# Altium integrated library Linear Technology PMIC-Switching Reg LT1074-LT8705.IntLib: 2252 symbols (part 60 of 124)
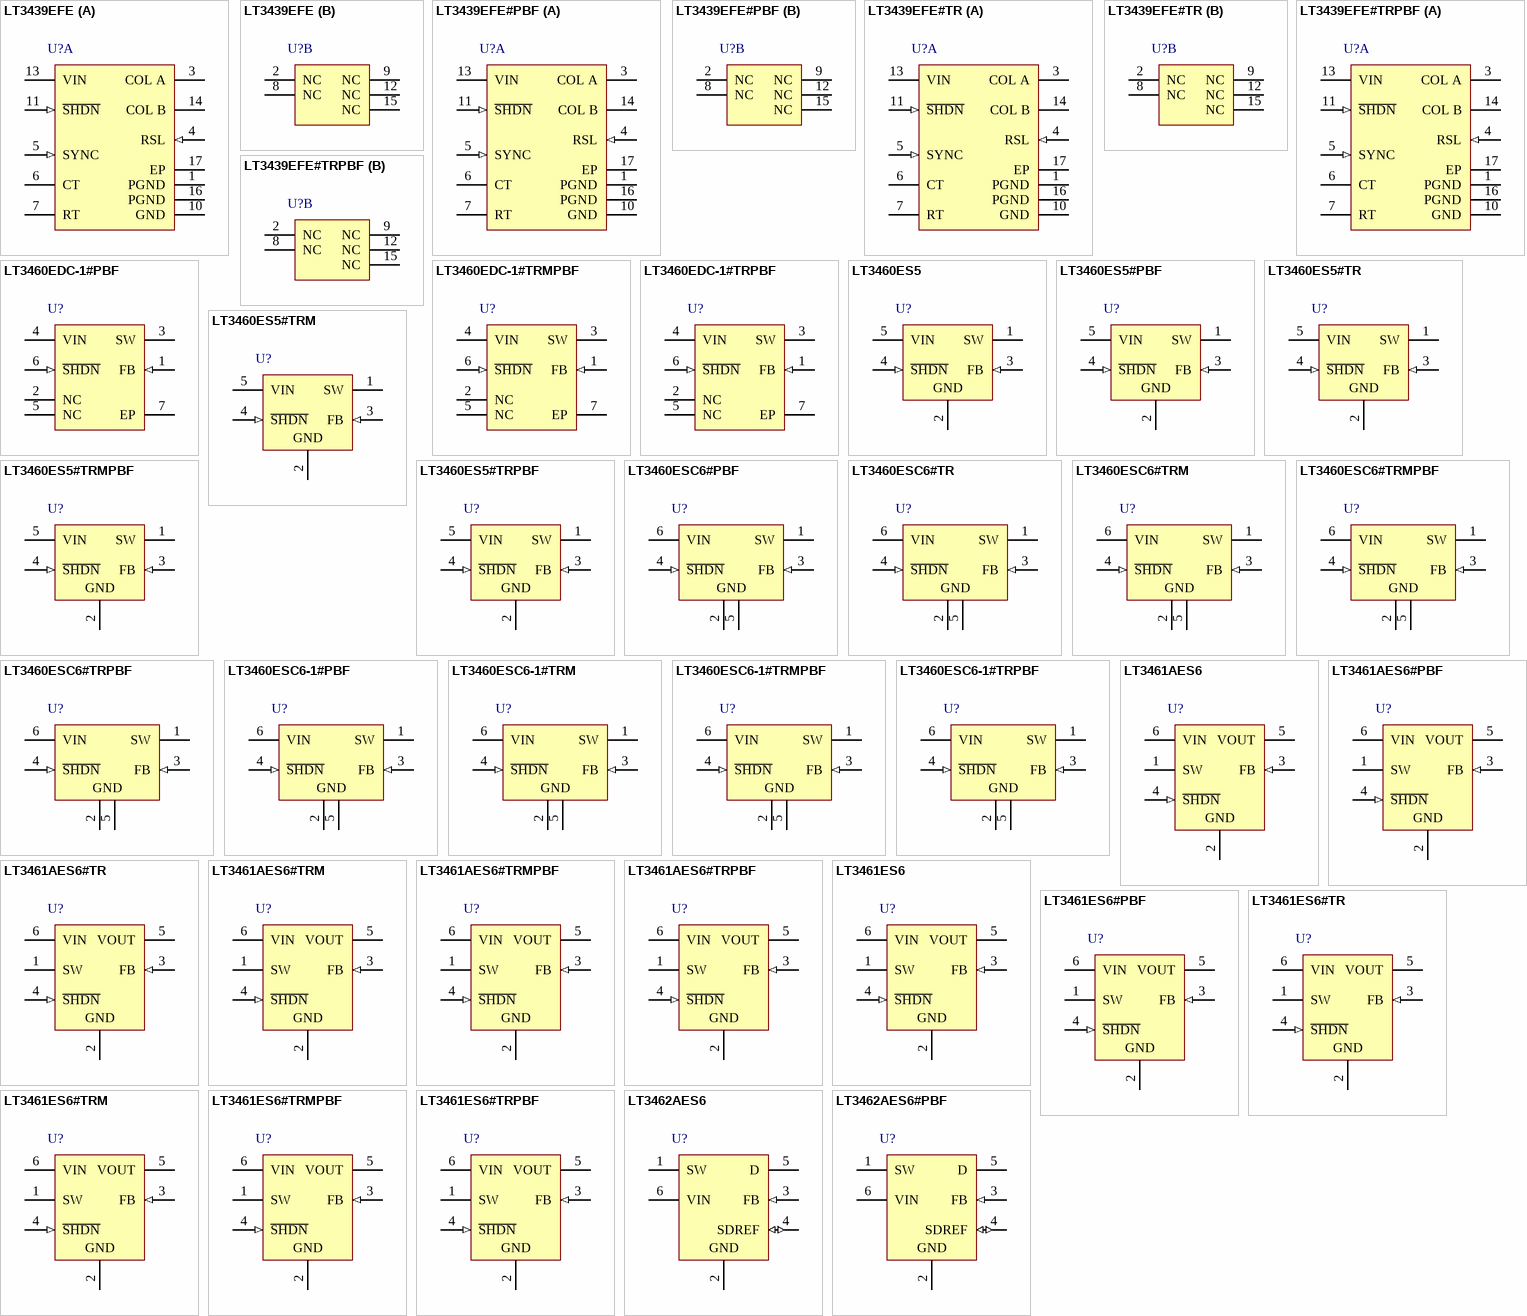
[diagram p130: symbols LT3439EFE to LT3462AES6#PBF]

## LT3460ESC6#PBF
designator U?
1.3 MHz Step-Up DC/DC Converter, 6-pin SOT23 (SC6-6), -40 to 85 degC, Pb-Free; Manufacturer: Linear Technology; PartNumber: LT3460ESC6#PBF; Number of Outputs: 1; PackageReference: SC6-6; PackageDescription: 6-Pin Plastic SC70, Body 2 x 1.25 mm, Pitch 0.65 mm; RoHS: TRUE
footprint LT-SC6-6-SC70_N (SOT23, 6-Leads, Body 2.2x1.35mm, Pitch 0.65mm, IPC Medium Density)
footprint LT-SC6-6-SC70_L (SOT23, 6-Leads, Body 2.2x1.35mm, Pitch 0.65mm, IPC High Density)
footprint LT-SC6-6-SC70_M (SOT23, 6-Leads, Body 2.2x1.35mm, Pitch 0.65mm, IPC Low Density)
pins: 1 SW (power) "Switch Pin. Connect inductor/diode here. Minimize trace at this pin to reduce EMI.", 2 GND (power) "Ground Pin. Tie directly to local ground plane.", 3 FB (in) "Feedback Pin. Reference voltage is 1.255V. Connect resistor divider tap here. Minimize trace area at FB. Set VOUT according to VOUT = 1.255V (1 + R1/R2).", 4 ~{SHDN} (in) "Shutdown Pin. Tie to 1.5V or higher to enable device; 0.4V or less to disable device. Also functions as soft-start. Use RC filter (47k, 47nF typ) as shown in Figure 1.", 5 GND (power) "Ground Pin. Tie directly to local ground plane.", 6 VIN (power) "Input Supply Pin. Must be locally bypassed."

## LT3460ESC6#TR
designator U?
1.3 MHz Step-Up DC/DC Converter, 6-pin SOT23 (SC6-6), -40 to 85 degC, Tape and Reel; Manufacturer: Linear Technology; PartNumber: LT3460ESC6#TR; Number of Outputs: 1; PackageReference: SC6-6; PackageDescription: 6-Pin Plastic SC70, Body 2 x 1.25 mm, Pitch 0.65 mm; Supplier 1: Digi-Key; Supplier Part Number 1: LT3460ESC6#TR-ND; RoHS: FALSE
footprint LT-SC6-6-SC70_N (SOT23, 6-Leads, Body 2.2x1.35mm, Pitch 0.65mm, IPC Medium Density)
footprint LT-SC6-6-SC70_L (SOT23, 6-Leads, Body 2.2x1.35mm, Pitch 0.65mm, IPC High Density)
footprint LT-SC6-6-SC70_M (SOT23, 6-Leads, Body 2.2x1.35mm, Pitch 0.65mm, IPC Low Density)
pins: 1 SW (power) "Switch Pin. Connect inductor/diode here. Minimize trace at this pin to reduce EMI.", 2 GND (power) "Ground Pin. Tie directly to local ground plane.", 3 FB (in) "Feedback Pin. Reference voltage is 1.255V. Connect resistor divider tap here. Minimize trace area at FB. Set VOUT according to VOUT = 1.255V (1 + R1/R2).", 4 ~{SHDN} (in) "Shutdown Pin. Tie to 1.5V or higher to enable device; 0.4V or less to disable device. Also functions as soft-start. Use RC filter (47k, 47nF typ) as shown in Figure 1.", 5 GND (power) "Ground Pin. Tie directly to local ground plane.", 6 VIN (power) "Input Supply Pin. Must be locally bypassed."

## LT3460ESC6#TRM
designator U?
1.3 MHz Step-Up DC/DC Converter, 6-pin SOT23 (SC6-6), -40 to 85 degC, Mini Tape and Reel; Manufacturer: Linear Technology; PartNumber: LT3460ESC6#TRM; Number of Outputs: 1; PackageReference: SC6-6; PackageDescription: 6-Pin Plastic SC70, Body 2 x 1.25 mm, Pitch 0.65 mm; Supplier 1: Digi-Key; Supplier Part Number 1: LT3460ESC6#TRMTR-ND; RoHS: FALSE
footprint LT-SC6-6-SC70_N (SOT23, 6-Leads, Body 2.2x1.35mm, Pitch 0.65mm, IPC Medium Density)
footprint LT-SC6-6-SC70_L (SOT23, 6-Leads, Body 2.2x1.35mm, Pitch 0.65mm, IPC High Density)
footprint LT-SC6-6-SC70_M (SOT23, 6-Leads, Body 2.2x1.35mm, Pitch 0.65mm, IPC Low Density)
pins: 1 SW (power) "Switch Pin. Connect inductor/diode here. Minimize trace at this pin to reduce EMI.", 2 GND (power) "Ground Pin. Tie directly to local ground plane.", 3 FB (in) "Feedback Pin. Reference voltage is 1.255V. Connect resistor divider tap here. Minimize trace area at FB. Set VOUT according to VOUT = 1.255V (1 + R1/R2).", 4 ~{SHDN} (in) "Shutdown Pin. Tie to 1.5V or higher to enable device; 0.4V or less to disable device. Also functions as soft-start. Use RC filter (47k, 47nF typ) as shown in Figure 1.", 5 GND (power) "Ground Pin. Tie directly to local ground plane.", 6 VIN (power) "Input Supply Pin. Must be locally bypassed."

## LT3460ESC6#TRMPBF
designator U?
1.3 MHz Step-Up DC/DC Converter, 6-pin SOT23 (SC6-6), -40 to 85 degC, Pb-Free, Mini Tape and Reel; Manufacturer: Linear Technology; PartNumber: LT3460ESC6#TRMPBF; Number of Outputs: 1; PackageReference: SC6-6; PackageDescription: 6-Pin Plastic SC70, Body 2 x 1.25 mm, Pitch 0.65 mm; Supplier 1: Digi-Key; Supplier Part Number 1: LT3460ESC6#TRMPBF-ND; RoHS: TRUE
footprint LT-SC6-6-SC70_N (SOT23, 6-Leads, Body 2.2x1.35mm, Pitch 0.65mm, IPC Medium Density)
footprint LT-SC6-6-SC70_L (SOT23, 6-Leads, Body 2.2x1.35mm, Pitch 0.65mm, IPC High Density)
footprint LT-SC6-6-SC70_M (SOT23, 6-Leads, Body 2.2x1.35mm, Pitch 0.65mm, IPC Low Density)
pins: 1 SW (power) "Switch Pin. Connect inductor/diode here. Minimize trace at this pin to reduce EMI.", 2 GND (power) "Ground Pin. Tie directly to local ground plane.", 3 FB (in) "Feedback Pin. Reference voltage is 1.255V. Connect resistor divider tap here. Minimize trace area at FB. Set VOUT according to VOUT = 1.255V (1 + R1/R2).", 4 ~{SHDN} (in) "Shutdown Pin. Tie to 1.5V or higher to enable device; 0.4V or less to disable device. Also functions as soft-start. Use RC filter (47k, 47nF typ) as shown in Figure 1.", 5 GND (power) "Ground Pin. Tie directly to local ground plane.", 6 VIN (power) "Input Supply Pin. Must be locally bypassed."

## LT3460ESC6#TRPBF
designator U?
1.3 MHz Step-Up DC/DC Converter, 6-pin SOT23 (SC6-6), -40 to 85 degC, Pb-Free, Tape and Reel; Manufacturer: Linear Technology; PartNumber: LT3460ESC6#TRPBF; Number of Outputs: 1; PackageReference: SC6-6; PackageDescription: 6-Pin Plastic SC70, Body 2 x 1.25 mm, Pitch 0.65 mm; Supplier 1: Digi-Key; Supplier Part Number 1: LT3460ESC6#TRPBF-ND; RoHS: TRUE
footprint LT-SC6-6-SC70_N (SOT23, 6-Leads, Body 2.2x1.35mm, Pitch 0.65mm, IPC Medium Density)
footprint LT-SC6-6-SC70_L (SOT23, 6-Leads, Body 2.2x1.35mm, Pitch 0.65mm, IPC High Density)
footprint LT-SC6-6-SC70_M (SOT23, 6-Leads, Body 2.2x1.35mm, Pitch 0.65mm, IPC Low Density)
pins: 1 SW (power) "Switch Pin. Connect inductor/diode here. Minimize trace at this pin to reduce EMI.", 2 GND (power) "Ground Pin. Tie directly to local ground plane.", 3 FB (in) "Feedback Pin. Reference voltage is 1.255V. Connect resistor divider tap here. Minimize trace area at FB. Set VOUT according to VOUT = 1.255V (1 + R1/R2).", 4 ~{SHDN} (in) "Shutdown Pin. Tie to 1.5V or higher to enable device; 0.4V or less to disable device. Also functions as soft-start. Use RC filter (47k, 47nF typ) as shown in Figure 1.", 5 GND (power) "Ground Pin. Tie directly to local ground plane.", 6 VIN (power) "Input Supply Pin. Must be locally bypassed."

## LT3460ESC6-1#PBF
designator U?
650 kHz Step-Up DC/DC Converter, 6-pin SOT23 (SC6-6), -40 to 85 degC, Pb-Free; Manufacturer: Linear Technology; PartNumber: LT3460ESC6-1#PBF; Number of Outputs: 1; PackageReference: SC6-6; PackageDescription: 6-Pin Plastic SC70, Body 2 x 1.25 mm, Pitch 0.65 mm; RoHS: TRUE
footprint LT-SC6-6-SC70_N (SOT23, 6-Leads, Body 2.2x1.35mm, Pitch 0.65mm, IPC Medium Density)
footprint LT-SC6-6-SC70_L (SOT23, 6-Leads, Body 2.2x1.35mm, Pitch 0.65mm, IPC High Density)
footprint LT-SC6-6-SC70_M (SOT23, 6-Leads, Body 2.2x1.35mm, Pitch 0.65mm, IPC Low Density)
pins: 1 SW (power) "Switch Pin. Connect inductor/diode here. Minimize trace at this pin to reduce EMI.", 2 GND (power) "Ground Pin. Tie directly to local ground plane.", 3 FB (in) "Feedback Pin. Reference voltage is 1.255V. Connect resistor divider tap here. Minimize trace area at FB. Set VOUT according to VOUT = 1.255V (1 + R1/R2).", 4 ~{SHDN} (in) "Shutdown Pin. Tie to 1.5V or higher to enable device; 0.4V or less to disable device. Also functions as soft-start. Use RC filter (47k, 47nF typ) as shown in Figure 1.", 5 GND (power) "Ground Pin. Tie directly to local ground plane.", 6 VIN (power) "Input Supply Pin. Must be locally bypassed."

## LT3460ESC6-1#TRM
designator U?
650 kHz Step-Up DC/DC Converter, 6-pin SOT23 (SC6-6), -40 to 85 degC, Mini Tape and Reel; Manufacturer: Linear Technology; PartNumber: LT3460ESC6-1#TRM; Number of Outputs: 1; PackageReference: SC6-6; PackageDescription: 6-Pin Plastic SC70, Body 2 x 1.25 mm, Pitch 0.65 mm; RoHS: TRUE
footprint LT-SC6-6-SC70_N (SOT23, 6-Leads, Body 2.2x1.35mm, Pitch 0.65mm, IPC Medium Density)
footprint LT-SC6-6-SC70_L (SOT23, 6-Leads, Body 2.2x1.35mm, Pitch 0.65mm, IPC High Density)
footprint LT-SC6-6-SC70_M (SOT23, 6-Leads, Body 2.2x1.35mm, Pitch 0.65mm, IPC Low Density)
pins: 1 SW (power) "Switch Pin. Connect inductor/diode here. Minimize trace at this pin to reduce EMI.", 2 GND (power) "Ground Pin. Tie directly to local ground plane.", 3 FB (in) "Feedback Pin. Reference voltage is 1.255V. Connect resistor divider tap here. Minimize trace area at FB. Set VOUT according to VOUT = 1.255V (1 + R1/R2).", 4 ~{SHDN} (in) "Shutdown Pin. Tie to 1.5V or higher to enable device; 0.4V or less to disable device. Also functions as soft-start. Use RC filter (47k, 47nF typ) as shown in Figure 1.", 5 GND (power) "Ground Pin. Tie directly to local ground plane.", 6 VIN (power) "Input Supply Pin. Must be locally bypassed."

## LT3460ESC6-1#TRMPBF
designator U?
650 kHz Step-Up DC/DC Converter, 6-pin SOT23 (SC6-6), -40 to 85 degC, Pb-Free, Mini Tape and Reel; Manufacturer: Linear Technology; PartNumber: LT3460ESC6-1#TRMPBF; Number of Outputs: 1; PackageReference: SC6-6; PackageDescription: 6-Pin Plastic SC70, Body 2 x 1.25 mm, Pitch 0.65 mm; Supplier 1: Digi-Key; Supplier Part Number 1: LT3460ESC6-1#TRMPBF-ND; RoHS: TRUE
footprint LT-SC6-6-SC70_N (SOT23, 6-Leads, Body 2.2x1.35mm, Pitch 0.65mm, IPC Medium Density)
footprint LT-SC6-6-SC70_L (SOT23, 6-Leads, Body 2.2x1.35mm, Pitch 0.65mm, IPC High Density)
footprint LT-SC6-6-SC70_M (SOT23, 6-Leads, Body 2.2x1.35mm, Pitch 0.65mm, IPC Low Density)
pins: 1 SW (power) "Switch Pin. Connect inductor/diode here. Minimize trace at this pin to reduce EMI.", 2 GND (power) "Ground Pin. Tie directly to local ground plane.", 3 FB (in) "Feedback Pin. Reference voltage is 1.255V. Connect resistor divider tap here. Minimize trace area at FB. Set VOUT according to VOUT = 1.255V (1 + R1/R2).", 4 ~{SHDN} (in) "Shutdown Pin. Tie to 1.5V or higher to enable device; 0.4V or less to disable device. Also functions as soft-start. Use RC filter (47k, 47nF typ) as shown in Figure 1.", 5 GND (power) "Ground Pin. Tie directly to local ground plane.", 6 VIN (power) "Input Supply Pin. Must be locally bypassed."

## LT3460ESC6-1#TRPBF
designator U?
650 kHz Step-Up DC/DC Converter, 6-pin SOT23 (SC6-6), -40 to 85 degC, Pb-Free, Tape and Reel; Manufacturer: Linear Technology; PartNumber: LT3460ESC6-1#TRPBF; Number of Outputs: 1; PackageReference: SC6-6; PackageDescription: 6-Pin Plastic SC70, Body 2 x 1.25 mm, Pitch 0.65 mm; Supplier 1: Digi-Key; Supplier Part Number 1: LT3460ESC6-1#TRPBF-ND; RoHS: TRUE
footprint LT-SC6-6-SC70_N (SOT23, 6-Leads, Body 2.2x1.35mm, Pitch 0.65mm, IPC Medium Density)
footprint LT-SC6-6-SC70_L (SOT23, 6-Leads, Body 2.2x1.35mm, Pitch 0.65mm, IPC High Density)
footprint LT-SC6-6-SC70_M (SOT23, 6-Leads, Body 2.2x1.35mm, Pitch 0.65mm, IPC Low Density)
pins: 1 SW (power) "Switch Pin. Connect inductor/diode here. Minimize trace at this pin to reduce EMI.", 2 GND (power) "Ground Pin. Tie directly to local ground plane.", 3 FB (in) "Feedback Pin. Reference voltage is 1.255V. Connect resistor divider tap here. Minimize trace area at FB. Set VOUT according to VOUT = 1.255V (1 + R1/R2).", 4 ~{SHDN} (in) "Shutdown Pin. Tie to 1.5V or higher to enable device; 0.4V or less to disable device. Also functions as soft-start. Use RC filter (47k, 47nF typ) as shown in Figure 1.", 5 GND (power) "Ground Pin. Tie directly to local ground plane.", 6 VIN (power) "Input Supply Pin. Must be locally bypassed."

## LT3461AES6
designator U?
3 MHz Step-Up DC/DC Converter with Integrated Schottky, 6-pin SOT23 (S6-6), -40 to 85 degC; Manufacturer: Linear Technology; PartNumber: LT3461AES6; Number of Outputs: 1; PackageReference: S6-6; PackageDescription: 6-Pin Plastic TSOT-23, Body 2.9 x 1.63 mm, Pitch 0.95 mm; Supplier 1: Newark; Supplier Part Number 1: 24W8904; RoHS: FALSE
footprint LT-S6-6-TSOT-23_N (SOT23, 6-Leads, Body 2.9x1.75mm, Pitch 0.95mm, IPC Medium Density)
footprint LT-S6-6-TSOT-23_L (SOT23, 6-Leads, Body 2.9x1.75mm, Pitch 0.95mm, IPC High Density)
footprint LT-S6-6-TSOT-23_M (SOT23, 6-Leads, Body 2.9x1.75mm, Pitch 0.95mm, IPC Low Density)
pins: 1 SW, 2 GND (power), 3 FB (in), 4 ~{SHDN} (in), 5 VOUT (power), 6 VIN (power)

## LT3461AES6#PBF
designator U?
3 MHz Step-Up DC/DC Converter with Integrated Schottky, 6-pin SOT23 (S6-6), -40 to 85 degC, Pb-Free; Manufacturer: Linear Technology; PartNumber: LT3461AES6#PBF; Number of Outputs: 1; PackageReference: S6-6; PackageDescription: 6-Pin Plastic TSOT-23, Body 2.9 x 1.63 mm, Pitch 0.95 mm; Supplier 1: Farnell; Supplier Part Number 1: 2308200; RoHS: TRUE
footprint LT-S6-6-TSOT-23_N (SOT23, 6-Leads, Body 2.9x1.75mm, Pitch 0.95mm, IPC Medium Density)
footprint LT-S6-6-TSOT-23_L (SOT23, 6-Leads, Body 2.9x1.75mm, Pitch 0.95mm, IPC High Density)
footprint LT-S6-6-TSOT-23_M (SOT23, 6-Leads, Body 2.9x1.75mm, Pitch 0.95mm, IPC Low Density)
pins: 1 SW, 2 GND (power), 3 FB (in), 4 ~{SHDN} (in), 5 VOUT (power), 6 VIN (power)

## LT3461AES6#TR
designator U?
3 MHz Step-Up DC/DC Converter with Integrated Schottky, 6-pin SOT23 (S6-6), -40 to 85 degC, Tape and Reel; Manufacturer: Linear Technology; PartNumber: LT3461AES6#TR; Number of Outputs: 1; PackageReference: S6-6; PackageDescription: 6-Pin Plastic TSOT-23, Body 2.9 x 1.63 mm, Pitch 0.95 mm; Supplier 1: Digi-Key; Supplier Part Number 1: LT3461AES6#TR-ND; RoHS: FALSE
footprint LT-S6-6-TSOT-23_N (SOT23, 6-Leads, Body 2.9x1.75mm, Pitch 0.95mm, IPC Medium Density)
footprint LT-S6-6-TSOT-23_L (SOT23, 6-Leads, Body 2.9x1.75mm, Pitch 0.95mm, IPC High Density)
footprint LT-S6-6-TSOT-23_M (SOT23, 6-Leads, Body 2.9x1.75mm, Pitch 0.95mm, IPC Low Density)
pins: 1 SW, 2 GND (power), 3 FB (in), 4 ~{SHDN} (in), 5 VOUT (power), 6 VIN (power)

## LT3461AES6#TRM
designator U?
3 MHz Step-Up DC/DC Converter with Integrated Schottky, 6-pin SOT23 (S6-6), -40 to 85 degC, Mini Tape and Reel; Manufacturer: Linear Technology; PartNumber: LT3461AES6#TRM; Number of Outputs: 1; PackageReference: S6-6; PackageDescription: 6-Pin Plastic TSOT-23, Body 2.9 x 1.63 mm, Pitch 0.95 mm; Supplier 1: Digi-Key; Supplier Part Number 1: LT3461AES6#TRMTR-ND; RoHS: FALSE
footprint LT-S6-6-TSOT-23_N (SOT23, 6-Leads, Body 2.9x1.75mm, Pitch 0.95mm, IPC Medium Density)
footprint LT-S6-6-TSOT-23_L (SOT23, 6-Leads, Body 2.9x1.75mm, Pitch 0.95mm, IPC High Density)
footprint LT-S6-6-TSOT-23_M (SOT23, 6-Leads, Body 2.9x1.75mm, Pitch 0.95mm, IPC Low Density)
pins: 1 SW, 2 GND (power), 3 FB (in), 4 ~{SHDN} (in), 5 VOUT (power), 6 VIN (power)

## LT3461AES6#TRMPBF
designator U?
3 MHz Step-Up DC/DC Converter with Integrated Schottky, 6-pin SOT23 (S6-6), -40 to 85 degC, Pb-Free, Mini Tape and Reel; Manufacturer: Linear Technology; PartNumber: LT3461AES6#TRMPBF; Number of Outputs: 1; PackageReference: S6-6; PackageDescription: 6-Pin Plastic TSOT-23, Body 2.9 x 1.63 mm, Pitch 0.95 mm; Supplier 1: Digi-Key; Supplier Part Number 1: LT3461AES6#TRMPBFTR-ND; RoHS: TRUE
footprint LT-S6-6-TSOT-23_N (SOT23, 6-Leads, Body 2.9x1.75mm, Pitch 0.95mm, IPC Medium Density)
footprint LT-S6-6-TSOT-23_L (SOT23, 6-Leads, Body 2.9x1.75mm, Pitch 0.95mm, IPC High Density)
footprint LT-S6-6-TSOT-23_M (SOT23, 6-Leads, Body 2.9x1.75mm, Pitch 0.95mm, IPC Low Density)
pins: 1 SW, 2 GND (power), 3 FB (in), 4 ~{SHDN} (in), 5 VOUT (power), 6 VIN (power)

## LT3461AES6#TRPBF
designator U?
3 MHz Step-Up DC/DC Converter with Integrated Schottky, 6-pin SOT23 (S6-6), -40 to 85 degC, Pb-Free, Tape and Reel; Manufacturer: Linear Technology; PartNumber: LT3461AES6#TRPBF; Number of Outputs: 1; PackageReference: S6-6; PackageDescription: 6-Pin Plastic TSOT-23, Body 2.9 x 1.63 mm, Pitch 0.95 mm; Supplier 1: Digi-Key; Supplier Part Number 1: LT3461AES6#TRPBF-ND; RoHS: TRUE
footprint LT-S6-6-TSOT-23_N (SOT23, 6-Leads, Body 2.9x1.75mm, Pitch 0.95mm, IPC Medium Density)
footprint LT-S6-6-TSOT-23_L (SOT23, 6-Leads, Body 2.9x1.75mm, Pitch 0.95mm, IPC High Density)
footprint LT-S6-6-TSOT-23_M (SOT23, 6-Leads, Body 2.9x1.75mm, Pitch 0.95mm, IPC Low Density)
pins: 1 SW, 2 GND (power), 3 FB (in), 4 ~{SHDN} (in), 5 VOUT (power), 6 VIN (power)

## LT3461ES6
designator U?
1.3 MHz Step-Up DC/DC Converter with Integrated Schottky, 6-pin SOT23 (S6-6), -40 to 85 degC; Manufacturer: Linear Technology; PartNumber: LT3461ES6; Number of Outputs: 1; PackageReference: S6-6; PackageDescription: 6-Pin Plastic TSOT-23, Body 2.9 x 1.63 mm, Pitch 0.95 mm; RoHS: FALSE
footprint LT-S6-6-TSOT-23_N (SOT23, 6-Leads, Body 2.9x1.75mm, Pitch 0.95mm, IPC Medium Density)
footprint LT-S6-6-TSOT-23_L (SOT23, 6-Leads, Body 2.9x1.75mm, Pitch 0.95mm, IPC High Density)
footprint LT-S6-6-TSOT-23_M (SOT23, 6-Leads, Body 2.9x1.75mm, Pitch 0.95mm, IPC Low Density)
pins: 1 SW, 2 GND (power), 3 FB (in), 4 ~{SHDN} (in), 5 VOUT (power), 6 VIN (power)

## LT3461ES6#PBF
designator U?
1.3 MHz Step-Up DC/DC Converter with Integrated Schottky, 6-pin SOT23 (S6-6), -40 to 85 degC, Pb-Free; Manufacturer: Linear Technology; PartNumber: LT3461ES6#PBF; Number of Outputs: 1; PackageReference: S6-6; PackageDescription: 6-Pin Plastic TSOT-23, Body 2.9 x 1.63 mm, Pitch 0.95 mm; Supplier 1: Farnell; Supplier Part Number 1: 2308201; RoHS: TRUE
footprint LT-S6-6-TSOT-23_N (SOT23, 6-Leads, Body 2.9x1.75mm, Pitch 0.95mm, IPC Medium Density)
footprint LT-S6-6-TSOT-23_L (SOT23, 6-Leads, Body 2.9x1.75mm, Pitch 0.95mm, IPC High Density)
footprint LT-S6-6-TSOT-23_M (SOT23, 6-Leads, Body 2.9x1.75mm, Pitch 0.95mm, IPC Low Density)
pins: 1 SW, 2 GND (power), 3 FB (in), 4 ~{SHDN} (in), 5 VOUT (power), 6 VIN (power)

## LT3461ES6#TR
designator U?
1.3 MHz Step-Up DC/DC Converter with Integrated Schottky, 6-pin SOT23 (S6-6), -40 to 85 degC, Tape and Reel; Manufacturer: Linear Technology; PartNumber: LT3461ES6#TR; Number of Outputs: 1; PackageReference: S6-6; PackageDescription: 6-Pin Plastic TSOT-23, Body 2.9 x 1.63 mm, Pitch 0.95 mm; Supplier 1: Digi-Key; Supplier Part Number 1: LT3461ES6#TR-ND; RoHS: FALSE
footprint LT-S6-6-TSOT-23_N (SOT23, 6-Leads, Body 2.9x1.75mm, Pitch 0.95mm, IPC Medium Density)
footprint LT-S6-6-TSOT-23_L (SOT23, 6-Leads, Body 2.9x1.75mm, Pitch 0.95mm, IPC High Density)
footprint LT-S6-6-TSOT-23_M (SOT23, 6-Leads, Body 2.9x1.75mm, Pitch 0.95mm, IPC Low Density)
pins: 1 SW, 2 GND (power), 3 FB (in), 4 ~{SHDN} (in), 5 VOUT (power), 6 VIN (power)

## LT3461ES6#TRM
designator U?
1.3 MHz Step-Up DC/DC Converter with Integrated Schottky, 6-pin SOT23 (S6-6), -40 to 85 degC, Mini Tape and Reel; Manufacturer: Linear Technology; PartNumber: LT3461ES6#TRM; Number of Outputs: 1; PackageReference: S6-6; PackageDescription: 6-Pin Plastic TSOT-23, Body 2.9 x 1.63 mm, Pitch 0.95 mm; Supplier 1: Digi-Key; Supplier Part Number 1: LT3461ES6#TRMTR-ND; RoHS: FALSE
footprint LT-S6-6-TSOT-23_N (SOT23, 6-Leads, Body 2.9x1.75mm, Pitch 0.95mm, IPC Medium Density)
footprint LT-S6-6-TSOT-23_L (SOT23, 6-Leads, Body 2.9x1.75mm, Pitch 0.95mm, IPC High Density)
footprint LT-S6-6-TSOT-23_M (SOT23, 6-Leads, Body 2.9x1.75mm, Pitch 0.95mm, IPC Low Density)
pins: 1 SW, 2 GND (power), 3 FB (in), 4 ~{SHDN} (in), 5 VOUT (power), 6 VIN (power)

## LT3461ES6#TRMPBF
designator U?
1.3 MHz Step-Up DC/DC Converter with Integrated Schottky, 6-pin SOT23 (S6-6), -40 to 85 degC, Pb-Free, Mini Tape and Reel; Manufacturer: Linear Technology; PartNumber: LT3461ES6#TRMPBF; Number of Outputs: 1; PackageReference: S6-6; PackageDescription: 6-Pin Plastic TSOT-23, Body 2.9 x 1.63 mm, Pitch 0.95 mm; Supplier 1: Digi-Key; Supplier Part Number 1: LT3461ES6#TRMPBFTR-ND; RoHS: TRUE
footprint LT-S6-6-TSOT-23_N (SOT23, 6-Leads, Body 2.9x1.75mm, Pitch 0.95mm, IPC Medium Density)
footprint LT-S6-6-TSOT-23_L (SOT23, 6-Leads, Body 2.9x1.75mm, Pitch 0.95mm, IPC High Density)
footprint LT-S6-6-TSOT-23_M (SOT23, 6-Leads, Body 2.9x1.75mm, Pitch 0.95mm, IPC Low Density)
pins: 1 SW, 2 GND (power), 3 FB (in), 4 ~{SHDN} (in), 5 VOUT (power), 6 VIN (power)

## LT3461ES6#TRPBF
designator U?
1.3 MHz Step-Up DC/DC Converter with Integrated Schottky, 6-pin SOT23 (S6-6), -40 to 85 degC, Pb-Free, Tape and Reel; Manufacturer: Linear Technology; PartNumber: LT3461ES6#TRPBF; Number of Outputs: 1; PackageReference: S6-6; PackageDescription: 6-Pin Plastic TSOT-23, Body 2.9 x 1.63 mm, Pitch 0.95 mm; Supplier 1: Digi-Key; Supplier Part Number 1: LT3461ES6#TRPBF-ND; RoHS: TRUE
footprint LT-S6-6-TSOT-23_N (SOT23, 6-Leads, Body 2.9x1.75mm, Pitch 0.95mm, IPC Medium Density)
footprint LT-S6-6-TSOT-23_L (SOT23, 6-Leads, Body 2.9x1.75mm, Pitch 0.95mm, IPC High Density)
footprint LT-S6-6-TSOT-23_M (SOT23, 6-Leads, Body 2.9x1.75mm, Pitch 0.95mm, IPC Low Density)
pins: 1 SW, 2 GND (power), 3 FB (in), 4 ~{SHDN} (in), 5 VOUT (power), 6 VIN (power)

## LT3462AES6
designator U?
Inverting 2.7 MHz DC/DC Converter with Integrated Schottky MAX, 6-pin SOT23 (S6-6), -40 to 85 degC; Manufacturer: Linear Technology; PartNumber: LT3462AES6; Number of Outputs: 1; PackageReference: S6-6; PackageDescription: 6-Pin Plastic TSOT-23, Body 2.9 x 1.63 mm, Pitch 0.95 mm; RoHS: FALSE
footprint LT-S6-6-TSOT-23_N (SOT23, 6-Leads, Body 2.9x1.75mm, Pitch 0.95mm, IPC Medium Density)
footprint LT-S6-6-TSOT-23_L (SOT23, 6-Leads, Body 2.9x1.75mm, Pitch 0.95mm, IPC High Density)
footprint LT-S6-6-TSOT-23_M (SOT23, 6-Leads, Body 2.9x1.75mm, Pitch 0.95mm, IPC Low Density)
pins: 1 SW (power) "Switch Pin. Connect to external inductor L1 and positive terminal of transfer cap.", 2 GND (power) "Ground. Tie directly to local ground plane.", 3 FB (in) "Feedback Pin. Connect resistive divider tap here. Set R1 according to R1 = R2 • (VOUT/1.265V). In shutdown, a proprietary shutdown bias current cancellation circuit allows the internal 3uA source to pull up the SDREF pin(See Datasheet)", 4 SDREF (io) "Dual Function Shutdown and 1.265V Reference Output Pin. Pull to GND with external N-FET to turn regulator off. Turn-off pull-down and a 2uA internal source will pull SDREF up to turn-on the regulator. At turnon, a 180uA (See Datasheet)", 5 D "Anode Terminal of Integrated Schottky Diode. Connect to negative terminal of transfer cap and external inductor L2.", 6 VIN (power) "Input Supply Pin. Must be locally bypassed"

## LT3462AES6#PBF
designator U?
Inverting 2.7 MHz DC/DC Converter with Integrated Schottky MAX, 6-pin SOT23 (S6-6), -40 to 85 degC, Pb-Free; Manufacturer: Linear Technology; PartNumber: LT3462AES6#PBF; Number of Outputs: 1; PackageReference: S6-6; PackageDescription: 6-Pin Plastic TSOT-23, Body 2.9 x 1.63 mm, Pitch 0.95 mm; Supplier 1: Newark; Supplier Part Number 1: 11R8008; RoHS: TRUE
footprint LT-S6-6-TSOT-23_N (SOT23, 6-Leads, Body 2.9x1.75mm, Pitch 0.95mm, IPC Medium Density)
footprint LT-S6-6-TSOT-23_L (SOT23, 6-Leads, Body 2.9x1.75mm, Pitch 0.95mm, IPC High Density)
footprint LT-S6-6-TSOT-23_M (SOT23, 6-Leads, Body 2.9x1.75mm, Pitch 0.95mm, IPC Low Density)
pins: 1 SW (power) "Switch Pin. Connect to external inductor L1 and positive terminal of transfer cap.", 2 GND (power) "Ground. Tie directly to local ground plane.", 3 FB (in) "Feedback Pin. Connect resistive divider tap here. Set R1 according to R1 = R2 • (VOUT/1.265V). In shutdown, a proprietary shutdown bias current cancellation circuit allows the internal 3uA source to pull up the SDREF pin(See Datasheet)", 4 SDREF (io) "Dual Function Shutdown and 1.265V Reference Output Pin. Pull to GND with external N-FET to turn regulator off. Turn-off pull-down and a 2uA internal source will pull SDREF up to turn-on the regulator. At turnon, a 180uA (See Datasheet)", 5 D "Anode Terminal of Integrated Schottky Diode. Connect to negative terminal of transfer cap and external inductor L2.", 6 VIN (power) "Input Supply Pin. Must be locally bypassed"

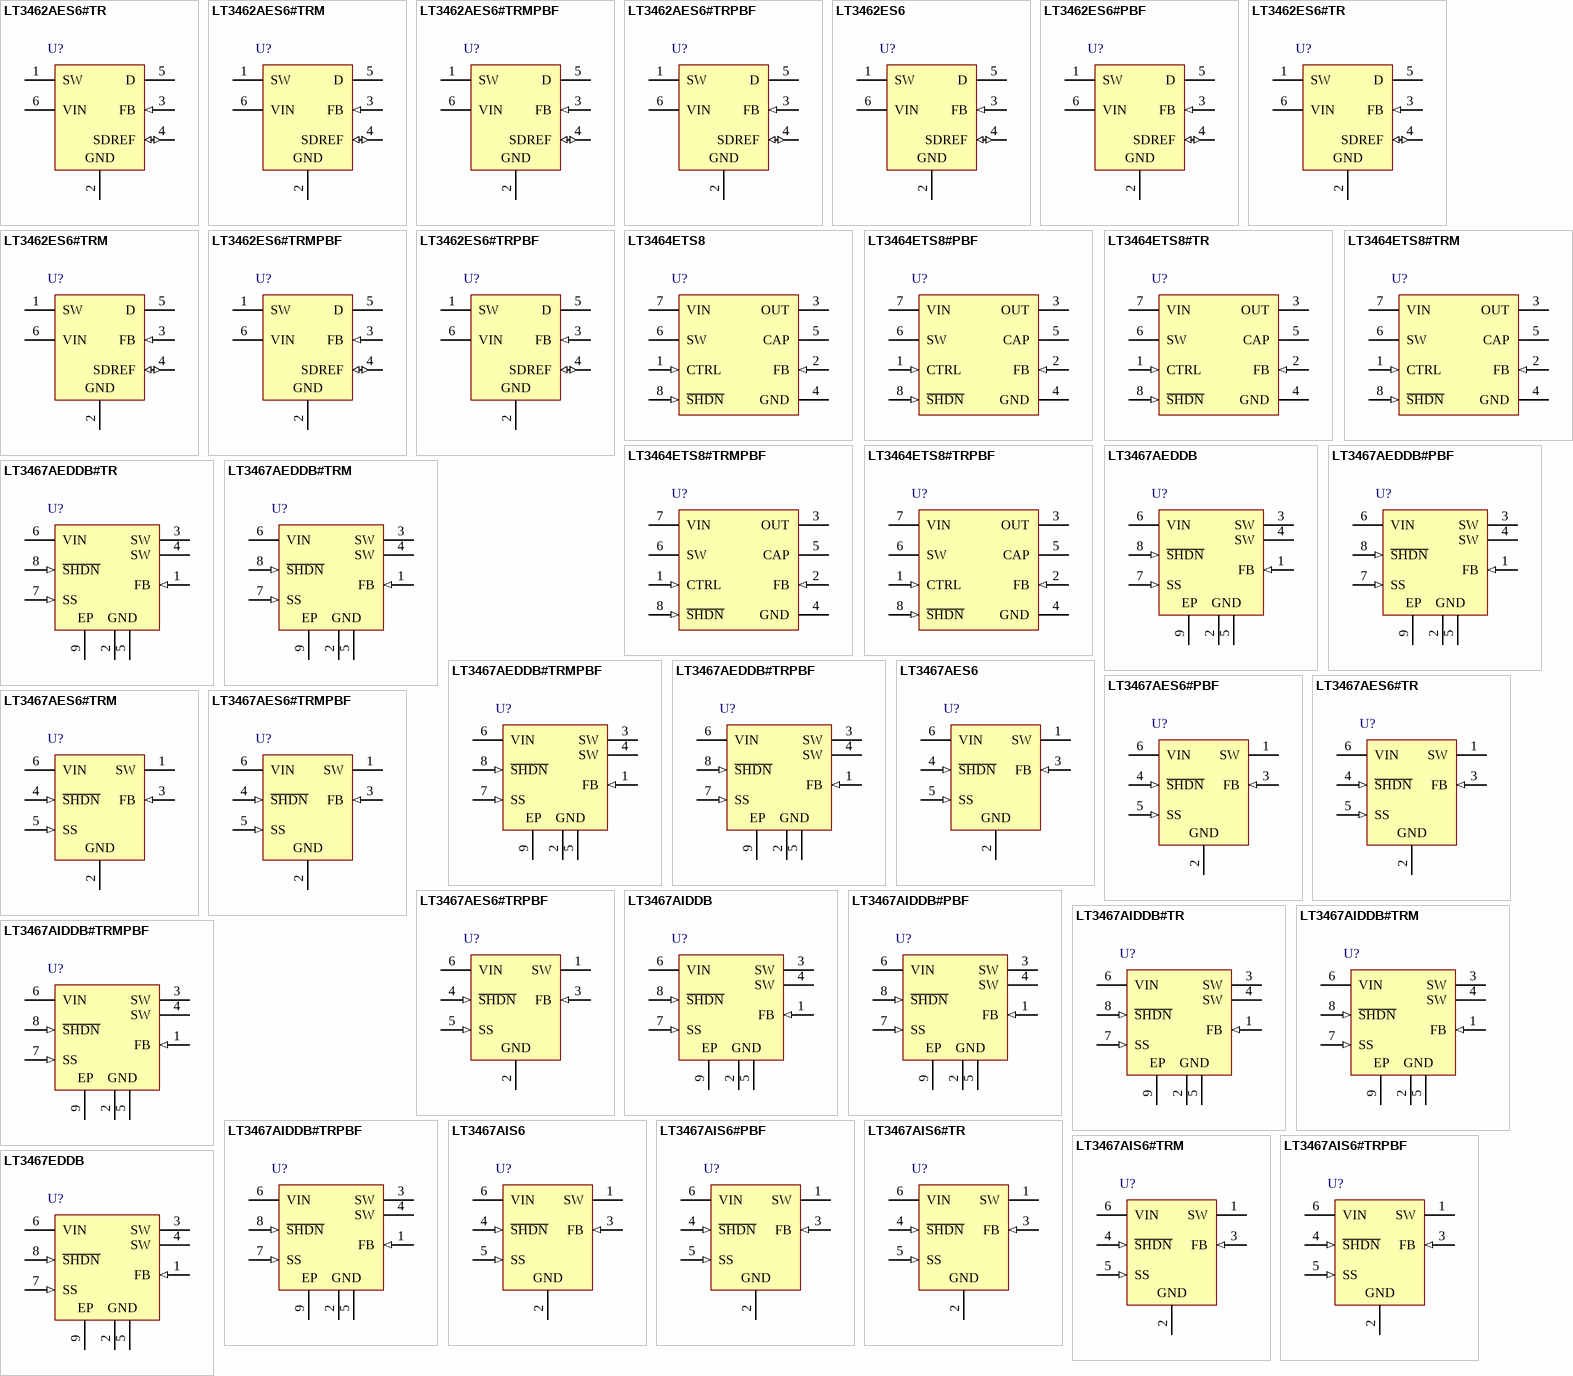
[diagram p36: symbols LT3462AES6#TR to LT3467EDDB]

## LT3462AES6#TR
designator U?
Inverting 2.7 MHz DC/DC Converter with Integrated Schottky MAX, 6-pin SOT23 (S6-6), -40 to 85 degC, Tape and Reel; Manufacturer: Linear Technology; PartNumber: LT3462AES6#TR; Number of Outputs: 1; PackageReference: S6-6; PackageDescription: 6-Pin Plastic TSOT-23, Body 2.9 x 1.63 mm, Pitch 0.95 mm; Supplier 1: Digi-Key; Supplier Part Number 1: LT3462AES6#TR-ND; RoHS: FALSE
footprint LT-S6-6-TSOT-23_N (SOT23, 6-Leads, Body 2.9x1.75mm, Pitch 0.95mm, IPC Medium Density)
footprint LT-S6-6-TSOT-23_L (SOT23, 6-Leads, Body 2.9x1.75mm, Pitch 0.95mm, IPC High Density)
footprint LT-S6-6-TSOT-23_M (SOT23, 6-Leads, Body 2.9x1.75mm, Pitch 0.95mm, IPC Low Density)
pins: 1 SW (power) "Switch Pin. Connect to external inductor L1 and positive terminal of transfer cap.", 2 GND (power) "Ground. Tie directly to local ground plane.", 3 FB (in) "Feedback Pin. Connect resistive divider tap here. Set R1 according to R1 = R2 • (VOUT/1.265V). In shutdown, a proprietary shutdown bias current cancellation circuit allows the internal 3uA source to pull up the SDREF pin(See Datasheet)", 4 SDREF (io) "Dual Function Shutdown and 1.265V Reference Output Pin. Pull to GND with external N-FET to turn regulator off. Turn-off pull-down and a 2uA internal source will pull SDREF up to turn-on the regulator. At turnon, a 180uA (See Datasheet)", 5 D "Anode Terminal of Integrated Schottky Diode. Connect to negative terminal of transfer cap and external inductor L2.", 6 VIN (power) "Input Supply Pin. Must be locally bypassed"

## LT3462AES6#TRM
designator U?
Inverting 2.7 MHz DC/DC Converter with Integrated Schottky MAX, 6-pin SOT23 (S6-6), -40 to 85 degC, Mini Tape and Reel; Manufacturer: Linear Technology; PartNumber: LT3462AES6#TRM; Number of Outputs: 1; PackageReference: S6-6; PackageDescription: 6-Pin Plastic TSOT-23, Body 2.9 x 1.63 mm, Pitch 0.95 mm; Supplier 1: Digi-Key; Supplier Part Number 1: LT3462AES6#TRM-ND; RoHS: FALSE
footprint LT-S6-6-TSOT-23_N (SOT23, 6-Leads, Body 2.9x1.75mm, Pitch 0.95mm, IPC Medium Density)
footprint LT-S6-6-TSOT-23_L (SOT23, 6-Leads, Body 2.9x1.75mm, Pitch 0.95mm, IPC High Density)
footprint LT-S6-6-TSOT-23_M (SOT23, 6-Leads, Body 2.9x1.75mm, Pitch 0.95mm, IPC Low Density)
pins: 1 SW (power) "Switch Pin. Connect to external inductor L1 and positive terminal of transfer cap.", 2 GND (power) "Ground. Tie directly to local ground plane.", 3 FB (in) "Feedback Pin. Connect resistive divider tap here. Set R1 according to R1 = R2 • (VOUT/1.265V). In shutdown, a proprietary shutdown bias current cancellation circuit allows the internal 3uA source to pull up the SDREF pin(See Datasheet)", 4 SDREF (io) "Dual Function Shutdown and 1.265V Reference Output Pin. Pull to GND with external N-FET to turn regulator off. Turn-off pull-down and a 2uA internal source will pull SDREF up to turn-on the regulator. At turnon, a 180uA (See Datasheet)", 5 D "Anode Terminal of Integrated Schottky Diode. Connect to negative terminal of transfer cap and external inductor L2.", 6 VIN (power) "Input Supply Pin. Must be locally bypassed"

## LT3462AES6#TRMPBF
designator U?
Inverting 2.7 MHz DC/DC Converter with Integrated Schottky MAX, 6-pin SOT23 (S6-6), -40 to 85 degC, Pb-Free, Mini Tape and Reel; Manufacturer: Linear Technology; PartNumber: LT3462AES6#TRMPBF; Number of Outputs: 1; PackageReference: S6-6; PackageDescription: 6-Pin Plastic TSOT-23, Body 2.9 x 1.63 mm, Pitch 0.95 mm; Supplier 1: Digi-Key; Supplier Part Number 1: LT3462AES6#TRMPBFTR-ND; RoHS: TRUE
footprint LT-S6-6-TSOT-23_N (SOT23, 6-Leads, Body 2.9x1.75mm, Pitch 0.95mm, IPC Medium Density)
footprint LT-S6-6-TSOT-23_L (SOT23, 6-Leads, Body 2.9x1.75mm, Pitch 0.95mm, IPC High Density)
footprint LT-S6-6-TSOT-23_M (SOT23, 6-Leads, Body 2.9x1.75mm, Pitch 0.95mm, IPC Low Density)
pins: 1 SW (power) "Switch Pin. Connect to external inductor L1 and positive terminal of transfer cap.", 2 GND (power) "Ground. Tie directly to local ground plane.", 3 FB (in) "Feedback Pin. Connect resistive divider tap here. Set R1 according to R1 = R2 • (VOUT/1.265V). In shutdown, a proprietary shutdown bias current cancellation circuit allows the internal 3uA source to pull up the SDREF pin(See Datasheet)", 4 SDREF (io) "Dual Function Shutdown and 1.265V Reference Output Pin. Pull to GND with external N-FET to turn regulator off. Turn-off pull-down and a 2uA internal source will pull SDREF up to turn-on the regulator. At turnon, a 180uA (See Datasheet)", 5 D "Anode Terminal of Integrated Schottky Diode. Connect to negative terminal of transfer cap and external inductor L2.", 6 VIN (power) "Input Supply Pin. Must be locally bypassed"

## LT3462AES6#TRPBF
designator U?
Inverting 2.7 MHz DC/DC Converter with Integrated Schottky MAX, 6-pin SOT23 (S6-6), -40 to 85 degC, Pb-Free, Tape and Reel; Manufacturer: Linear Technology; PartNumber: LT3462AES6#TRPBF; Number of Outputs: 1; PackageReference: S6-6; PackageDescription: 6-Pin Plastic TSOT-23, Body 2.9 x 1.63 mm, Pitch 0.95 mm; Supplier 1: Digi-Key; Supplier Part Number 1: LT3462AES6#TRPBF-ND; RoHS: TRUE
footprint LT-S6-6-TSOT-23_N (SOT23, 6-Leads, Body 2.9x1.75mm, Pitch 0.95mm, IPC Medium Density)
footprint LT-S6-6-TSOT-23_L (SOT23, 6-Leads, Body 2.9x1.75mm, Pitch 0.95mm, IPC High Density)
footprint LT-S6-6-TSOT-23_M (SOT23, 6-Leads, Body 2.9x1.75mm, Pitch 0.95mm, IPC Low Density)
pins: 1 SW (power) "Switch Pin. Connect to external inductor L1 and positive terminal of transfer cap.", 2 GND (power) "Ground. Tie directly to local ground plane.", 3 FB (in) "Feedback Pin. Connect resistive divider tap here. Set R1 according to R1 = R2 • (VOUT/1.265V). In shutdown, a proprietary shutdown bias current cancellation circuit allows the internal 3uA source to pull up the SDREF pin(See Datasheet)", 4 SDREF (io) "Dual Function Shutdown and 1.265V Reference Output Pin. Pull to GND with external N-FET to turn regulator off. Turn-off pull-down and a 2uA internal source will pull SDREF up to turn-on the regulator. At turnon, a 180uA (See Datasheet)", 5 D "Anode Terminal of Integrated Schottky Diode. Connect to negative terminal of transfer cap and external inductor L2.", 6 VIN (power) "Input Supply Pin. Must be locally bypassed"

## LT3462ES6
designator U?
Inverting 1.2 MHz DC/DC Converter with Integrated Schottky MAX, 6-pin SOT23 (S6-6), -40 to 85 degC; Manufacturer: Linear Technology; PartNumber: LT3462ES6; Number of Outputs: 1; PackageReference: S6-6; PackageDescription: 6-Pin Plastic TSOT-23, Body 2.9 x 1.63 mm, Pitch 0.95 mm; RoHS: FALSE
footprint LT-S6-6-TSOT-23_N (SOT23, 6-Leads, Body 2.9x1.75mm, Pitch 0.95mm, IPC Medium Density)
footprint LT-S6-6-TSOT-23_L (SOT23, 6-Leads, Body 2.9x1.75mm, Pitch 0.95mm, IPC High Density)
footprint LT-S6-6-TSOT-23_M (SOT23, 6-Leads, Body 2.9x1.75mm, Pitch 0.95mm, IPC Low Density)
pins: 1 SW "Switch Pin. Connect to external inductor L1 and positive terminal of transfer cap.", 2 GND (power) "Ground. Tie directly to local ground plane.", 3 FB (in) "Feedback Pin. Connect resistive divider tap here. Set R1 according to R1 = R2 x (VOUT/1.265V). In shutdown, a proprietary shutdown bias current cancellation circuit allows the internal 3uA source to pull up the SDREF pin(See Datasheet)", 4 SDREF (io) "Dual Function Shutdown and 1.265V Reference Output Pin. Pull to GND with external N-FET to turn regulator off. Turn-off pull-down and a 2uA internal source will pull SDREF up to turn-on the regulator. At turnon, a 180uA (See Datasheet)", 5 D "Anode Terminal of Integrated Schottky Diode. Connect to negative terminal of transfer cap and external inductor L2.", 6 VIN (power) "Input Supply Pin. Must be locally bypassed"

## LT3462ES6#PBF
designator U?
Inverting 1.2 MHz DC/DC Converter with Integrated Schottky MAX, 6-pin SOT23 (S6-6), -40 to 85 degC, Pb-Free; Manufacturer: Linear Technology; PartNumber: LT3462ES6#PBF; Number of Outputs: 1; PackageReference: S6-6; PackageDescription: 6-Pin Plastic TSOT-23, Body 2.9 x 1.63 mm, Pitch 0.95 mm; Supplier 1: Farnell; Supplier Part Number 1: 1858700; RoHS: TRUE
footprint LT-S6-6-TSOT-23_N (SOT23, 6-Leads, Body 2.9x1.75mm, Pitch 0.95mm, IPC Medium Density)
footprint LT-S6-6-TSOT-23_L (SOT23, 6-Leads, Body 2.9x1.75mm, Pitch 0.95mm, IPC High Density)
footprint LT-S6-6-TSOT-23_M (SOT23, 6-Leads, Body 2.9x1.75mm, Pitch 0.95mm, IPC Low Density)
pins: 1 SW "Switch Pin. Connect to external inductor L1 and positive terminal of transfer cap.", 2 GND (power) "Ground. Tie directly to local ground plane.", 3 FB (in) "Feedback Pin. Connect resistive divider tap here. Set R1 according to R1 = R2 x (VOUT/1.265V). In shutdown, a proprietary shutdown bias current cancellation circuit allows the internal 3uA source to pull up the SDREF pin(See Datasheet)", 4 SDREF (io) "Dual Function Shutdown and 1.265V Reference Output Pin. Pull to GND with external N-FET to turn regulator off. Turn-off pull-down and a 2uA internal source will pull SDREF up to turn-on the regulator. At turnon, a 180uA (See Datasheet)", 5 D "Anode Terminal of Integrated Schottky Diode. Connect to negative terminal of transfer cap and external inductor L2.", 6 VIN (power) "Input Supply Pin. Must be locally bypassed"

## LT3462ES6#TR
designator U?
Inverting 1.2 MHz DC/DC Converter with Integrated Schottky MAX, 6-pin SOT23 (S6-6), -40 to 85 degC, Tape and Reel; Manufacturer: Linear Technology; PartNumber: LT3462ES6#TR; Number of Outputs: 1; PackageReference: S6-6; PackageDescription: 6-Pin Plastic TSOT-23, Body 2.9 x 1.63 mm, Pitch 0.95 mm; Supplier 1: Digi-Key; Supplier Part Number 1: LT3462ES6#TR-ND; RoHS: FALSE
footprint LT-S6-6-TSOT-23_N (SOT23, 6-Leads, Body 2.9x1.75mm, Pitch 0.95mm, IPC Medium Density)
footprint LT-S6-6-TSOT-23_L (SOT23, 6-Leads, Body 2.9x1.75mm, Pitch 0.95mm, IPC High Density)
footprint LT-S6-6-TSOT-23_M (SOT23, 6-Leads, Body 2.9x1.75mm, Pitch 0.95mm, IPC Low Density)
pins: 1 SW "Switch Pin. Connect to external inductor L1 and positive terminal of transfer cap.", 2 GND (power) "Ground. Tie directly to local ground plane.", 3 FB (in) "Feedback Pin. Connect resistive divider tap here. Set R1 according to R1 = R2 x (VOUT/1.265V). In shutdown, a proprietary shutdown bias current cancellation circuit allows the internal 3uA source to pull up the SDREF pin(See Datasheet)", 4 SDREF (io) "Dual Function Shutdown and 1.265V Reference Output Pin. Pull to GND with external N-FET to turn regulator off. Turn-off pull-down and a 2uA internal source will pull SDREF up to turn-on the regulator. At turnon, a 180uA (See Datasheet)", 5 D "Anode Terminal of Integrated Schottky Diode. Connect to negative terminal of transfer cap and external inductor L2.", 6 VIN (power) "Input Supply Pin. Must be locally bypassed"

## LT3462ES6#TRM
designator U?
Inverting 1.2 MHz DC/DC Converter with Integrated Schottky MAX, 6-pin SOT23 (S6-6), -40 to 85 degC, Mini Tape and Reel; Manufacturer: Linear Technology; PartNumber: LT3462ES6#TRM; Number of Outputs: 1; PackageReference: S6-6; PackageDescription: 6-Pin Plastic TSOT-23, Body 2.9 x 1.63 mm, Pitch 0.95 mm; Supplier 1: Digi-Key; Supplier Part Number 1: LT3462ES6#TRM-ND; RoHS: FALSE
footprint LT-S6-6-TSOT-23_N (SOT23, 6-Leads, Body 2.9x1.75mm, Pitch 0.95mm, IPC Medium Density)
footprint LT-S6-6-TSOT-23_L (SOT23, 6-Leads, Body 2.9x1.75mm, Pitch 0.95mm, IPC High Density)
footprint LT-S6-6-TSOT-23_M (SOT23, 6-Leads, Body 2.9x1.75mm, Pitch 0.95mm, IPC Low Density)
pins: 1 SW "Switch Pin. Connect to external inductor L1 and positive terminal of transfer cap.", 2 GND (power) "Ground. Tie directly to local ground plane.", 3 FB (in) "Feedback Pin. Connect resistive divider tap here. Set R1 according to R1 = R2 x (VOUT/1.265V). In shutdown, a proprietary shutdown bias current cancellation circuit allows the internal 3uA source to pull up the SDREF pin(See Datasheet)", 4 SDREF (io) "Dual Function Shutdown and 1.265V Reference Output Pin. Pull to GND with external N-FET to turn regulator off. Turn-off pull-down and a 2uA internal source will pull SDREF up to turn-on the regulator. At turnon, a 180uA (See Datasheet)", 5 D "Anode Terminal of Integrated Schottky Diode. Connect to negative terminal of transfer cap and external inductor L2.", 6 VIN (power) "Input Supply Pin. Must be locally bypassed"

## LT3462ES6#TRMPBF
designator U?
Inverting 1.2 MHz DC/DC Converter with Integrated Schottky MAX, 6-pin SOT23 (S6-6), -40 to 85 degC, Pb-Free, Mini Tape and Reel; Manufacturer: Linear Technology; PartNumber: LT3462ES6#TRMPBF; Number of Outputs: 1; PackageReference: S6-6; PackageDescription: 6-Pin Plastic TSOT-23, Body 2.9 x 1.63 mm, Pitch 0.95 mm; Supplier 1: Digi-Key; Supplier Part Number 1: LT3462ES6#TRMPBFTR-ND; RoHS: TRUE
footprint LT-S6-6-TSOT-23_N (SOT23, 6-Leads, Body 2.9x1.75mm, Pitch 0.95mm, IPC Medium Density)
footprint LT-S6-6-TSOT-23_L (SOT23, 6-Leads, Body 2.9x1.75mm, Pitch 0.95mm, IPC High Density)
footprint LT-S6-6-TSOT-23_M (SOT23, 6-Leads, Body 2.9x1.75mm, Pitch 0.95mm, IPC Low Density)
pins: 1 SW "Switch Pin. Connect to external inductor L1 and positive terminal of transfer cap.", 2 GND (power) "Ground. Tie directly to local ground plane.", 3 FB (in) "Feedback Pin. Connect resistive divider tap here. Set R1 according to R1 = R2 x (VOUT/1.265V). In shutdown, a proprietary shutdown bias current cancellation circuit allows the internal 3uA source to pull up the SDREF pin(See Datasheet)", 4 SDREF (io) "Dual Function Shutdown and 1.265V Reference Output Pin. Pull to GND with external N-FET to turn regulator off. Turn-off pull-down and a 2uA internal source will pull SDREF up to turn-on the regulator. At turnon, a 180uA (See Datasheet)", 5 D "Anode Terminal of Integrated Schottky Diode. Connect to negative terminal of transfer cap and external inductor L2.", 6 VIN (power) "Input Supply Pin. Must be locally bypassed"

## LT3462ES6#TRPBF
designator U?
Inverting 1.2 MHz DC/DC Converter with Integrated Schottky MAX, 6-pin SOT23 (S6-6), -40 to 85 degC, Pb-Free, Tape and Reel; Manufacturer: Linear Technology; PartNumber: LT3462ES6#TRPBF; Number of Outputs: 1; PackageReference: S6-6; PackageDescription: 6-Pin Plastic TSOT-23, Body 2.9 x 1.63 mm, Pitch 0.95 mm; Supplier 1: Digi-Key; Supplier Part Number 1: LT3462ES6#TRPBF-ND; RoHS: TRUE
footprint LT-S6-6-TSOT-23_N (SOT23, 6-Leads, Body 2.9x1.75mm, Pitch 0.95mm, IPC Medium Density)
footprint LT-S6-6-TSOT-23_L (SOT23, 6-Leads, Body 2.9x1.75mm, Pitch 0.95mm, IPC High Density)
footprint LT-S6-6-TSOT-23_M (SOT23, 6-Leads, Body 2.9x1.75mm, Pitch 0.95mm, IPC Low Density)
pins: 1 SW "Switch Pin. Connect to external inductor L1 and positive terminal of transfer cap.", 2 GND (power) "Ground. Tie directly to local ground plane.", 3 FB (in) "Feedback Pin. Connect resistive divider tap here. Set R1 according to R1 = R2 x (VOUT/1.265V). In shutdown, a proprietary shutdown bias current cancellation circuit allows the internal 3uA source to pull up the SDREF pin(See Datasheet)", 4 SDREF (io) "Dual Function Shutdown and 1.265V Reference Output Pin. Pull to GND with external N-FET to turn regulator off. Turn-off pull-down and a 2uA internal source will pull SDREF up to turn-on the regulator. At turnon, a 180uA (See Datasheet)", 5 D "Anode Terminal of Integrated Schottky Diode. Connect to negative terminal of transfer cap and external inductor L2.", 6 VIN (power) "Input Supply Pin. Must be locally bypassed"

## LT3464ETS8
designator U?
Micropower Boost Converter with Integrated Schottky and Output Disconnect, 8-pin SOT23 (TS8-8), -40 to 85 degC; Manufacturer: Linear Technology; PartNumber: LT3464ETS8; Number of Outputs: 1; PackageReference: TS8-8; PackageDescription: 8-Pin Plastic TSOT-23, Body 2.9 x 1.63 mm, Pitch 0.65 mm; RoHS: FALSE
footprint LT-TS8-8-TSOT-23_V (SOT23, 8-Leads, Body 2.9x1.75mm, Pitch 0.65mm)
pins: 1 CTRL (in) "Internal Reference Override Pin. This allows the FB voltage to be externally set between 0V and 1.25V. Tie this pin to above 1.5V (V IN for example) to use the internal 1.25V reference.", 2 FB (in) "Feedback Pin. The LT3464 regulates its feedback pin to 1.25V if the internal reference is used or to VCTRL if the CTRL pin is between 0V and 1.25V. Connect the feedback resistor divider tap to this pin. Set the output (See Datasheet)", 3 OUT (power) "PNP Collector. This is the output of the Output Disconnect circuit. Bypass this pin with at least a 0.1uF capacitor connected to the CAP pin or to ground.", 4 GND (power) "Ground. Tie this pin directly to the ground plane.", 5 CAP "PNP Emitter and Schottky Cathode. This pin connects to the output capacitor, and optionally to the external phase-lead capacitor.", 6 SW "Switch Pin and Schottky Anode. This is the collector of the internal NPN power switch. Minimize the metal trace area connected to the pin to minimize EMI.", 7 VIN (power) "Input Supply Pin: Bypass this pin with a capacitor located as close to the device as possible.", 8 ~{SHDN} (in) "Shutdown Pin. This pin is used to put the device in shutdown mode. Tie the pin low to shut down the LT3464. Tie high for normal operation See the electrical specifications for the required voltages."

## LT3464ETS8#PBF
designator U?
Micropower Boost Converter with Integrated Schottky and Output Disconnect, 8-pin SOT23 (TS8-8), -40 to 85 degC, Pb-Free; Manufacturer: Linear Technology; PartNumber: LT3464ETS8#PBF; Number of Outputs: 1; PackageReference: TS8-8; PackageDescription: 8-Pin Plastic TSOT-23, Body 2.9 x 1.63 mm, Pitch 0.65 mm; Supplier 1: Newark; Supplier Part Number 1: 78T3990; RoHS: TRUE
footprint LT-TS8-8-TSOT-23_V (SOT23, 8-Leads, Body 2.9x1.75mm, Pitch 0.65mm)
pins: 1 CTRL (in) "Internal Reference Override Pin. This allows the FB voltage to be externally set between 0V and 1.25V. Tie this pin to above 1.5V (V IN for example) to use the internal 1.25V reference.", 2 FB (in) "Feedback Pin. The LT3464 regulates its feedback pin to 1.25V if the internal reference is used or to VCTRL if the CTRL pin is between 0V and 1.25V. Connect the feedback resistor divider tap to this pin. Set the output (See Datasheet)", 3 OUT (power) "PNP Collector. This is the output of the Output Disconnect circuit. Bypass this pin with at least a 0.1uF capacitor connected to the CAP pin or to ground.", 4 GND (power) "Ground. Tie this pin directly to the ground plane.", 5 CAP "PNP Emitter and Schottky Cathode. This pin connects to the output capacitor, and optionally to the external phase-lead capacitor.", 6 SW "Switch Pin and Schottky Anode. This is the collector of the internal NPN power switch. Minimize the metal trace area connected to the pin to minimize EMI.", 7 VIN (power) "Input Supply Pin: Bypass this pin with a capacitor located as close to the device as possible.", 8 ~{SHDN} (in) "Shutdown Pin. This pin is used to put the device in shutdown mode. Tie the pin low to shut down the LT3464. Tie high for normal operation See the electrical specifications for the required voltages."

## LT3464ETS8#TR
designator U?
Micropower Boost Converter with Integrated Schottky and Output Disconnect, 8-pin SOT23 (TS8-8), -40 to 85 degC, Tape and Reel; Manufacturer: Linear Technology; PartNumber: LT3464ETS8#TR; Number of Outputs: 1; PackageReference: TS8-8; PackageDescription: 8-Pin Plastic TSOT-23, Body 2.9 x 1.63 mm, Pitch 0.65 mm; Supplier 1: Digi-Key; Supplier Part Number 1: LT3464ETS8#TR-ND; RoHS: FALSE
footprint LT-TS8-8-TSOT-23_V (SOT23, 8-Leads, Body 2.9x1.75mm, Pitch 0.65mm)
pins: 1 CTRL (in) "Internal Reference Override Pin. This allows the FB voltage to be externally set between 0V and 1.25V. Tie this pin to above 1.5V (V IN for example) to use the internal 1.25V reference.", 2 FB (in) "Feedback Pin. The LT3464 regulates its feedback pin to 1.25V if the internal reference is used or to VCTRL if the CTRL pin is between 0V and 1.25V. Connect the feedback resistor divider tap to this pin. Set the output (See Datasheet)", 3 OUT (power) "PNP Collector. This is the output of the Output Disconnect circuit. Bypass this pin with at least a 0.1uF capacitor connected to the CAP pin or to ground.", 4 GND (power) "Ground. Tie this pin directly to the ground plane.", 5 CAP "PNP Emitter and Schottky Cathode. This pin connects to the output capacitor, and optionally to the external phase-lead capacitor.", 6 SW "Switch Pin and Schottky Anode. This is the collector of the internal NPN power switch. Minimize the metal trace area connected to the pin to minimize EMI.", 7 VIN (power) "Input Supply Pin: Bypass this pin with a capacitor located as close to the device as possible.", 8 ~{SHDN} (in) "Shutdown Pin. This pin is used to put the device in shutdown mode. Tie the pin low to shut down the LT3464. Tie high for normal operation See the electrical specifications for the required voltages."

## LT3464ETS8#TRM
designator U?
Micropower Boost Converter with Integrated Schottky and Output Disconnect, 8-pin SOT23 (TS8-8), -40 to 85 degC, Mini Tape and Reel; Manufacturer: Linear Technology; PartNumber: LT3464ETS8#TRM; Number of Outputs: 1; PackageReference: TS8-8; PackageDescription: 8-Pin Plastic TSOT-23, Body 2.9 x 1.63 mm, Pitch 0.65 mm; Supplier 1: Digi-Key; Supplier Part Number 1: LT3464ETS8#TRMTR-ND; RoHS: FALSE
footprint LT-TS8-8-TSOT-23_V (SOT23, 8-Leads, Body 2.9x1.75mm, Pitch 0.65mm)
pins: 1 CTRL (in) "Internal Reference Override Pin. This allows the FB voltage to be externally set between 0V and 1.25V. Tie this pin to above 1.5V (V IN for example) to use the internal 1.25V reference.", 2 FB (in) "Feedback Pin. The LT3464 regulates its feedback pin to 1.25V if the internal reference is used or to VCTRL if the CTRL pin is between 0V and 1.25V. Connect the feedback resistor divider tap to this pin. Set the output (See Datasheet)", 3 OUT (power) "PNP Collector. This is the output of the Output Disconnect circuit. Bypass this pin with at least a 0.1uF capacitor connected to the CAP pin or to ground.", 4 GND (power) "Ground. Tie this pin directly to the ground plane.", 5 CAP "PNP Emitter and Schottky Cathode. This pin connects to the output capacitor, and optionally to the external phase-lead capacitor.", 6 SW "Switch Pin and Schottky Anode. This is the collector of the internal NPN power switch. Minimize the metal trace area connected to the pin to minimize EMI.", 7 VIN (power) "Input Supply Pin: Bypass this pin with a capacitor located as close to the device as possible.", 8 ~{SHDN} (in) "Shutdown Pin. This pin is used to put the device in shutdown mode. Tie the pin low to shut down the LT3464. Tie high for normal operation See the electrical specifications for the required voltages."

## LT3464ETS8#TRMPBF
designator U?
Micropower Boost Converter with Integrated Schottky and Output Disconnect, 8-pin SOT23 (TS8-8), -40 to 85 degC, Pb-Free, Mini Tape and Reel; Manufacturer: Linear Technology; PartNumber: LT3464ETS8#TRMPBF; Number of Outputs: 1; PackageReference: TS8-8; PackageDescription: 8-Pin Plastic TSOT-23, Body 2.9 x 1.63 mm, Pitch 0.65 mm; Supplier 1: Digi-Key; Supplier Part Number 1: LT3464ETS8#TRMPBFTR-ND; RoHS: TRUE
footprint LT-TS8-8-TSOT-23_V (SOT23, 8-Leads, Body 2.9x1.75mm, Pitch 0.65mm)
pins: 1 CTRL (in) "Internal Reference Override Pin. This allows the FB voltage to be externally set between 0V and 1.25V. Tie this pin to above 1.5V (V IN for example) to use the internal 1.25V reference.", 2 FB (in) "Feedback Pin. The LT3464 regulates its feedback pin to 1.25V if the internal reference is used or to VCTRL if the CTRL pin is between 0V and 1.25V. Connect the feedback resistor divider tap to this pin. Set the output (See Datasheet)", 3 OUT (power) "PNP Collector. This is the output of the Output Disconnect circuit. Bypass this pin with at least a 0.1uF capacitor connected to the CAP pin or to ground.", 4 GND (power) "Ground. Tie this pin directly to the ground plane.", 5 CAP "PNP Emitter and Schottky Cathode. This pin connects to the output capacitor, and optionally to the external phase-lead capacitor.", 6 SW "Switch Pin and Schottky Anode. This is the collector of the internal NPN power switch. Minimize the metal trace area connected to the pin to minimize EMI.", 7 VIN (power) "Input Supply Pin: Bypass this pin with a capacitor located as close to the device as possible.", 8 ~{SHDN} (in) "Shutdown Pin. This pin is used to put the device in shutdown mode. Tie the pin low to shut down the LT3464. Tie high for normal operation See the electrical specifications for the required voltages."

## LT3464ETS8#TRPBF
designator U?
Micropower Boost Converter with Integrated Schottky and Output Disconnect, 8-pin SOT23 (TS8-8), -40 to 85 degC, Pb-Free, Tape and Reel; Manufacturer: Linear Technology; PartNumber: LT3464ETS8#TRPBF; Number of Outputs: 1; PackageReference: TS8-8; PackageDescription: 8-Pin Plastic TSOT-23, Body 2.9 x 1.63 mm, Pitch 0.65 mm; Supplier 1: Digi-Key; Supplier Part Number 1: LT3464ETS8#TRPBF-ND; RoHS: TRUE
footprint LT-TS8-8-TSOT-23_V (SOT23, 8-Leads, Body 2.9x1.75mm, Pitch 0.65mm)
pins: 1 CTRL (in) "Internal Reference Override Pin. This allows the FB voltage to be externally set between 0V and 1.25V. Tie this pin to above 1.5V (V IN for example) to use the internal 1.25V reference.", 2 FB (in) "Feedback Pin. The LT3464 regulates its feedback pin to 1.25V if the internal reference is used or to VCTRL if the CTRL pin is between 0V and 1.25V. Connect the feedback resistor divider tap to this pin. Set the output (See Datasheet)", 3 OUT (power) "PNP Collector. This is the output of the Output Disconnect circuit. Bypass this pin with at least a 0.1uF capacitor connected to the CAP pin or to ground.", 4 GND (power) "Ground. Tie this pin directly to the ground plane.", 5 CAP "PNP Emitter and Schottky Cathode. This pin connects to the output capacitor, and optionally to the external phase-lead capacitor.", 6 SW "Switch Pin and Schottky Anode. This is the collector of the internal NPN power switch. Minimize the metal trace area connected to the pin to minimize EMI.", 7 VIN (power) "Input Supply Pin: Bypass this pin with a capacitor located as close to the device as possible.", 8 ~{SHDN} (in) "Shutdown Pin. This pin is used to put the device in shutdown mode. Tie the pin low to shut down the LT3464. Tie high for normal operation See the electrical specifications for the required voltages."